# Altium footprint library Capacitors THD.PcbLib: 270 footprints (part 5 of 17)
Each footprint in its own frame and in the unit in brackets; x right, y up, seen from the top. Pads: shape width x height; smd on the part's side, far side on the other; paste and mask are expansions set on the pad; w line width, h text height; cw(c..) or ccw(c..) is an arc to the next point about the centre after c.
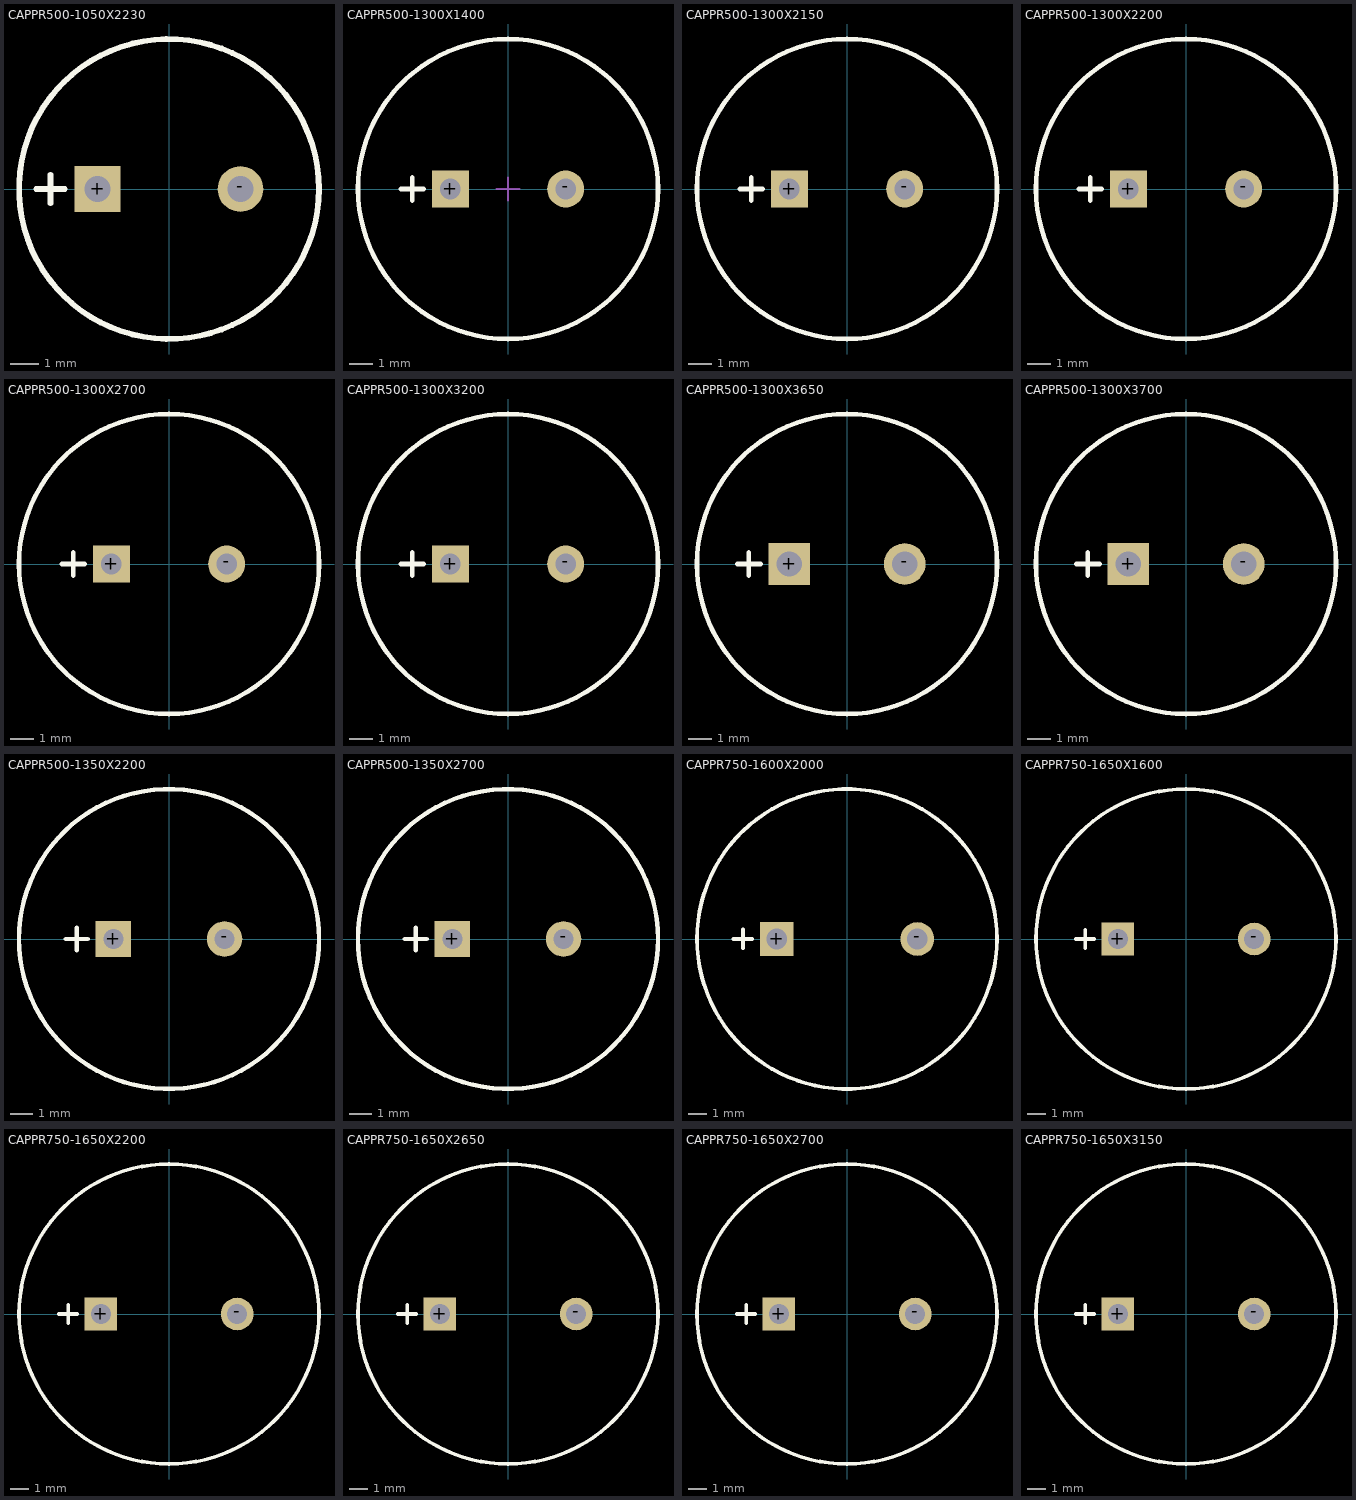
[diagram p4: the footprints below, top view; thin cyan lines are the x and y axes]

## CAPPR500-1050X2230 [mm] "Capacitor, Radial, Pin spacing 5.0mm - Body Diameter 10.5mm X Body Height 22.3mm"
height 22.3
pads (2):
  rect 1.6x1.6 hole 0.9: +(-2.5,0)
  round 1.6 hole 0.9: -(2.5,0)
Top Overlay:
  circle w0.2: c0,0 r5.25
  lines w0.2: -4.65,0 -3.65,0 ; -4.15,-0.5 -4.15,0.5
Mechanical 13:
  circle w0.1: c0,0 r5.25
Mechanical 14:
  circle w0.1: c0,0 r5.25
  lines w0.1: -4.65,0 -3.65,0 ; -4.15,-0.5 -4.15,0.5
3D body "CAPPR500-1050X2230.stp": height 22.3, standoff -3.6, extent -5.25,-5.227 5.25,5.228

## CAPPR500-1300X1400 [mm] "Capacitor, Radial, Pin spacing 5.0mm - Body Diameter 13.0mm X Body Height 14mm"
height 14
pads (2):
  rect 1.6x1.6 hole 0.9: +(-2.5,0)
  round 1.6 hole 0.9: -(2.5,0)
Top Overlay:
  circle w0.2: c0,0 r6.5
  lines w0.2: -4.65,0 -3.65,0 ; -4.15,-0.5 -4.15,0.5
Mechanical 8:
  lines w0.1: -0.5,0 0,0 ; 0,-0.5 0,0 ; 0,0.5 0,0 ; 0.5,0 0,0
Mechanical 13:
  circle w0.1: c0,0 r6.5
Mechanical 14:
  circle w0.1: c0,0 r6.5
  lines w0.1: -4.65,0 -3.65,0 ; -4.15,-0.5 -4.15,0.5
3D body "CAPPR500-1300X1400.stp": height 14, standoff -3.6, extent -6.5,-6.5 6.5,6.5

## CAPPR500-1300X2150 [mm] "Capacitor, Radial, Pin spacing 5.0mm - Body Diameter 13.0mm X Body Height 21.5mm"
height 21.5
pads (2):
  rect 1.6x1.6 hole 0.9: +(-2.5,0)
  round 1.6 hole 0.9: -(2.5,0)
Top Overlay:
  circle w0.2: c0,0 r6.5
  lines w0.2: -4.65,0 -3.65,0 ; -4.15,-0.5 -4.15,0.5
Mechanical 13:
  circle w0.1: c0,0 r6.5
Mechanical 14:
  circle w0.1: c0,0 r6.5
  lines w0.1: -4.65,0 -3.65,0 ; -4.15,-0.5 -4.15,0.5
3D body "CAPPR500-1300X2150.stp": height 21.5, standoff -3.6, extent -6.5,-6.483 6.5,6.483

## CAPPR500-1300X2200 [mm] "Capacitor, Radial, Pin spacing 5.0mm - Body Diameter 13.0mm X Body Height 22.0mm"
height 22
pads (2):
  rect 1.6x1.6 hole 0.9: +(-2.5,0)
  round 1.6 hole 0.9: -(2.5,0)
Top Overlay:
  circle w0.2: c0,0 r6.5
  lines w0.2: -4.65,0 -3.65,0 ; -4.15,-0.5 -4.15,0.5
Mechanical 13:
  circle w0.1: c0,0 r6.5
Mechanical 14:
  circle w0.1: c0,0 r6.5
  lines w0.1: -4.65,0 -3.65,0 ; -4.15,-0.5 -4.15,0.5
3D body "CAPPR500-1300X2200.stp": height 22, standoff -3.6, extent -6.5,-6.483 6.5,6.483

## CAPPR500-1300X2700 [mm] "Capacitor, Radial, Pin spacing 5.0mm - Body Diameter 13.0mm X Body Height 27.0mm"
height 27
pads (2):
  rect 1.6x1.6 hole 0.9: +(-2.5,0)
  round 1.6 hole 0.9: -(2.5,0)
Top Overlay:
  circle w0.2: c0,0 r6.5
  lines w0.2: -4.65,0 -3.65,0 ; -4.15,-0.5 -4.15,0.5
Mechanical 13:
  circle w0.1: c0,0 r6.5
Mechanical 14:
  circle w0.1: c0,0 r6.5
  lines w0.1: -4.65,0 -3.65,0 ; -4.15,-0.5 -4.15,0.5
3D body "CAPPR500-1300X2700.stp": height 27, standoff -3.6, extent -6.5,-6.483 6.5,6.483

## CAPPR500-1300X3200 [mm] "Capacitor, Radial, Pin spacing 5.0mm - Body Diameter 13.0mm X Body Height 32.0mm"
height 32
pads (2):
  rect 1.6x1.6 hole 0.9: +(-2.5,0)
  round 1.6 hole 0.9: -(2.5,0)
Top Overlay:
  circle w0.2: c0,0 r6.5
  lines w0.2: -4.65,0 -3.65,0 ; -4.15,-0.5 -4.15,0.5
Mechanical 13:
  circle w0.1: c0,0 r6.5
Mechanical 14:
  circle w0.1: c0,0 r6.5
  lines w0.1: -4.65,0 -3.65,0 ; -4.15,-0.5 -4.15,0.5
3D body "CAPPR500-1300X3200.stp": height 32, standoff -3.6, extent -6.5,-6.5 6.5,6.5

## CAPPR500-1300X3650 [mm] "Capacitor, Radial, Pin spacing 5.0mm - Body Diameter max13.0mm X Body Height max 36.5mm"
height 36.5
pads (2):
  rect 1.8x1.8 hole 1.1: +(-2.5,0)
  round 1.8 hole 1.1: -(2.5,0)
Top Overlay:
  circle w0.2: c0,0 r6.5
  lines w0.2: -4.75,0 -3.75,0 ; -4.25,-0.5 -4.25,0.5
Mechanical 13:
  circle w0.1: c0,0 r6.5
Mechanical 14:
  circle w0.1: c0,0 r6.5
  lines w0.1: -4.75,0 -3.75,0 ; -4.25,-0.5 -4.25,0.5
3D body "CAPPR500-1300X3650.stp": height 36.5, standoff -3.6, extent -6.5,-6.5 6.5,6.5

## CAPPR500-1300X3700 [mm] "Capacitor, Radial, Pin spacing 5.0mm - Body Diameter max13.0mm X Body Height max 37.0mm"
height 37
pads (2):
  rect 1.8x1.8 hole 1.1: +(-2.5,0)
  round 1.8 hole 1.1: -(2.5,0)
Top Overlay:
  circle w0.2: c0,0 r6.5
  lines w0.2: -4.75,0 -3.75,0 ; -4.25,-0.5 -4.25,0.5
Mechanical 13:
  circle w0.1: c0,0 r6.5
Mechanical 14:
  circle w0.1: c0,0 r6.5
  lines w0.1: -4.75,0 -3.75,0 ; -4.25,-0.5 -4.25,0.5
3D body "CAPPR500-1300X3700.stp": height 37, standoff -3.6, extent -6.5,-6.483 6.5,6.483

## CAPPR500-1350X2200 [mm] "Capacitor, Radial, Pin spacing 5.0mm - Body Diameter 13.5mm X Body Height 22.0mm"
height 22
pads (2):
  rect 1.6x1.6 hole 0.9: +(-2.5,0)
  round 1.6 hole 0.9: -(2.5,0)
Top Overlay:
  circle w0.2: c0,0 r6.75
  lines w0.2: -4.65,0 -3.65,0 ; -4.15,-0.5 -4.15,0.5
Mechanical 14:
  circle w0.1: c0,0 r6.75
  lines w0.1: -4.65,0 -3.65,0 ; -4.15,-0.5 -4.15,0.5
3D body "CAPPR500-1350X2200.stp": height 22.5, standoff -3.6, extent -6.75,-6.75 6.75,6.75

## CAPPR500-1350X2700 [mm] "Capacitor, Radial, Pin spacing 5.0mm - Body Diameter 13.5mm X Body Height 27mm"
height 27
pads (2):
  rect 1.6x1.6 hole 0.9: +(-2.5,0)
  round 1.6 hole 0.9: -(2.5,0)
Top Overlay:
  circle w0.2: c0,0 r6.75
  lines w0.2: -4.65,0 -3.65,0 ; -4.15,-0.5 -4.15,0.5
Mechanical 14:
  circle w0.1: c0,0 r6.75
  lines w0.1: -4.65,0 -3.65,0 ; -4.15,-0.5 -4.15,0.5
3D body "CAPPR500-1350X2700.stp": height 27, standoff -3.6, extent -6.75,-6.75 6.75,6.75

## CAPPR750-1600X2000 [mm] "Capacitor, Radial, Pin spacing 7.5mm - Body Diameter 16.0mm X Body  Height 20.0mm"
height 20
pads (2):
  rect 1.8x1.8 hole 1.1: +(-3.75,0)
  round 1.8 hole 1.1: -(3.75,0)
Top Overlay:
  circle w0.2: c0,0 r8
  lines w0.2: -6.05,0 -5.05,0 ; -5.55,-0.5 -5.55,0.5
Mechanical 13:
  circle w0.1: c0,0 r8
Mechanical 14:
  circle w0.1: c0,0 r8
  lines w0.1: -6.05,0 -5.05,0 ; -5.55,-0.5 -5.55,0.5
3D body "CAPPR750-1600X2000.stp": height 20, standoff -3.6, extent -8,-8 8,8

## CAPPR750-1650X1600 [mm] "Capacitor, Radial, Pin spacing 7.5mm - Body Diameter 16.5mm X Body  Height 16mm"
height 16
pads (2):
  rect 1.8x1.8 hole 1.1: +(-3.75,0)
  round 1.8 hole 1.1: -(3.75,0)
Top Overlay:
  circle w0.2: c0,0 r8.25
  lines w0.2: -6.05,0 -5.05,0 ; -5.55,-0.5 -5.55,0.5
Mechanical 14:
  circle w0.1: c0,0 r8.25
  lines w0.1: -6.05,0 -5.05,0 ; -5.55,-0.5 -5.55,0.5
3D body "CAPPR750-1650X1600.stp": height 16, standoff -3.1, extent -8.25,-8.25 8.25,8.25

## CAPPR750-1650X2200 [mm] "Capacitor, Radial, Pin spacing 7.5mm - Body Diameter 16.5mm X Body  Height 22.0mm"
height 22
pads (2):
  rect 1.8x1.8 hole 1.1: +(-3.75,0)
  round 1.8 hole 1.1: -(3.75,0)
Top Overlay:
  circle w0.2: c0,0 r8.25
  lines w0.2: -6.05,0 -5.05,0 ; -5.55,-0.5 -5.55,0.5
Mechanical 13:
  circle w0.1: c0,0 r8.25
Mechanical 14:
  circle w0.1: c0,0 r8.25
  lines w0.1: -6.05,0 -5.05,0 ; -5.55,-0.5 -5.55,0.5
3D body "CAPPR750-1650X2200.stp": height 22, standoff -3.6, extent -8.25,-8.25 8.25,8.25

## CAPPR750-1650X2650 [mm] "Capacitor, Radial, Pin spacing 7.5mm - Body Diameter 16.5mm X Body  Height 26.5m"
height 26.5
pads (2):
  rect 1.8x1.8 hole 1.1: +(-3.75,0)
  round 1.8 hole 1.1: -(3.75,0)
Top Overlay:
  circle w0.2: c0,0 r8.25
  lines w0.2: -6.05,0 -5.05,0 ; -5.55,-0.5 -5.55,0.5
Mechanical 13:
  circle w0.1: c0,0 r8.25
Mechanical 14:
  circle w0.1: c0,0 r8.25
  lines w0.1: -6.05,0 -5.05,0 ; -5.55,-0.5 -5.55,0.5
3D body "CAPPR750-1650X2650.stp": height 26.5, standoff -3.6, extent -8.25,-8.249 8.247,8.249

## CAPPR750-1650X2700 [mm] "Capacitor, Radial, Pin spacing 7.5mm - Body Diameter 16.5mm X Body  Height 27.0mm"
height 27
pads (2):
  rect 1.8x1.8 hole 1.1: +(-3.75,0)
  round 1.8 hole 1.1: -(3.75,0)
Top Overlay:
  circle w0.2: c0,0 r8.25
  lines w0.2: -6.05,0 -5.05,0 ; -5.55,-0.5 -5.55,0.5
Mechanical 13:
  circle w0.1: c0,0 r8.25
Mechanical 14:
  circle w0.1: c0,0 r8.25
  lines w0.1: -6.05,0 -5.05,0 ; -5.55,-0.5 -5.55,0.5
3D body "CAPPR750-1650X2700.stp": height 27, standoff -3.6, extent -8.25,-8.241 8.25,8.241

## CAPPR750-1650X3150 [mm] "Capacitor, Radial, Pin spacing 7.5mm - Body Diameter 16.5mm X Body  Height 31.5mm"
height 31.5
pads (2):
  rect 1.8x1.8 hole 1.1: +(-3.75,0)
  round 1.8 hole 1.1: -(3.75,0)
Top Overlay:
  circle w0.2: c0,0 r8.25
  lines w0.2: -6.05,0 -5.05,0 ; -5.55,-0.5 -5.55,0.5
Mechanical 13:
  circle w0.1: c0,0 r8.25
Mechanical 14:
  circle w0.1: c0,0 r8.25
  lines w0.1: -6.05,0 -5.05,0 ; -5.55,-0.5 -5.55,0.5
3D body "CAPPR750-1650X3150.stp": height 31.5, standoff -3.6, extent -8.25,-8.248 8.248,8.249